# Altium footprint library LegacyDO.PcbLib: 67 footprints (part 3 of 5)
Each footprint in its own frame and in the unit in brackets; x right, y up, seen from the top. Pads: shape width x height; smd on the part's side, far side on the other; paste and mask are expansions set on the pad; w line width, h text height; cw(c..) or ccw(c..) is an arc to the next point about the centre after c.
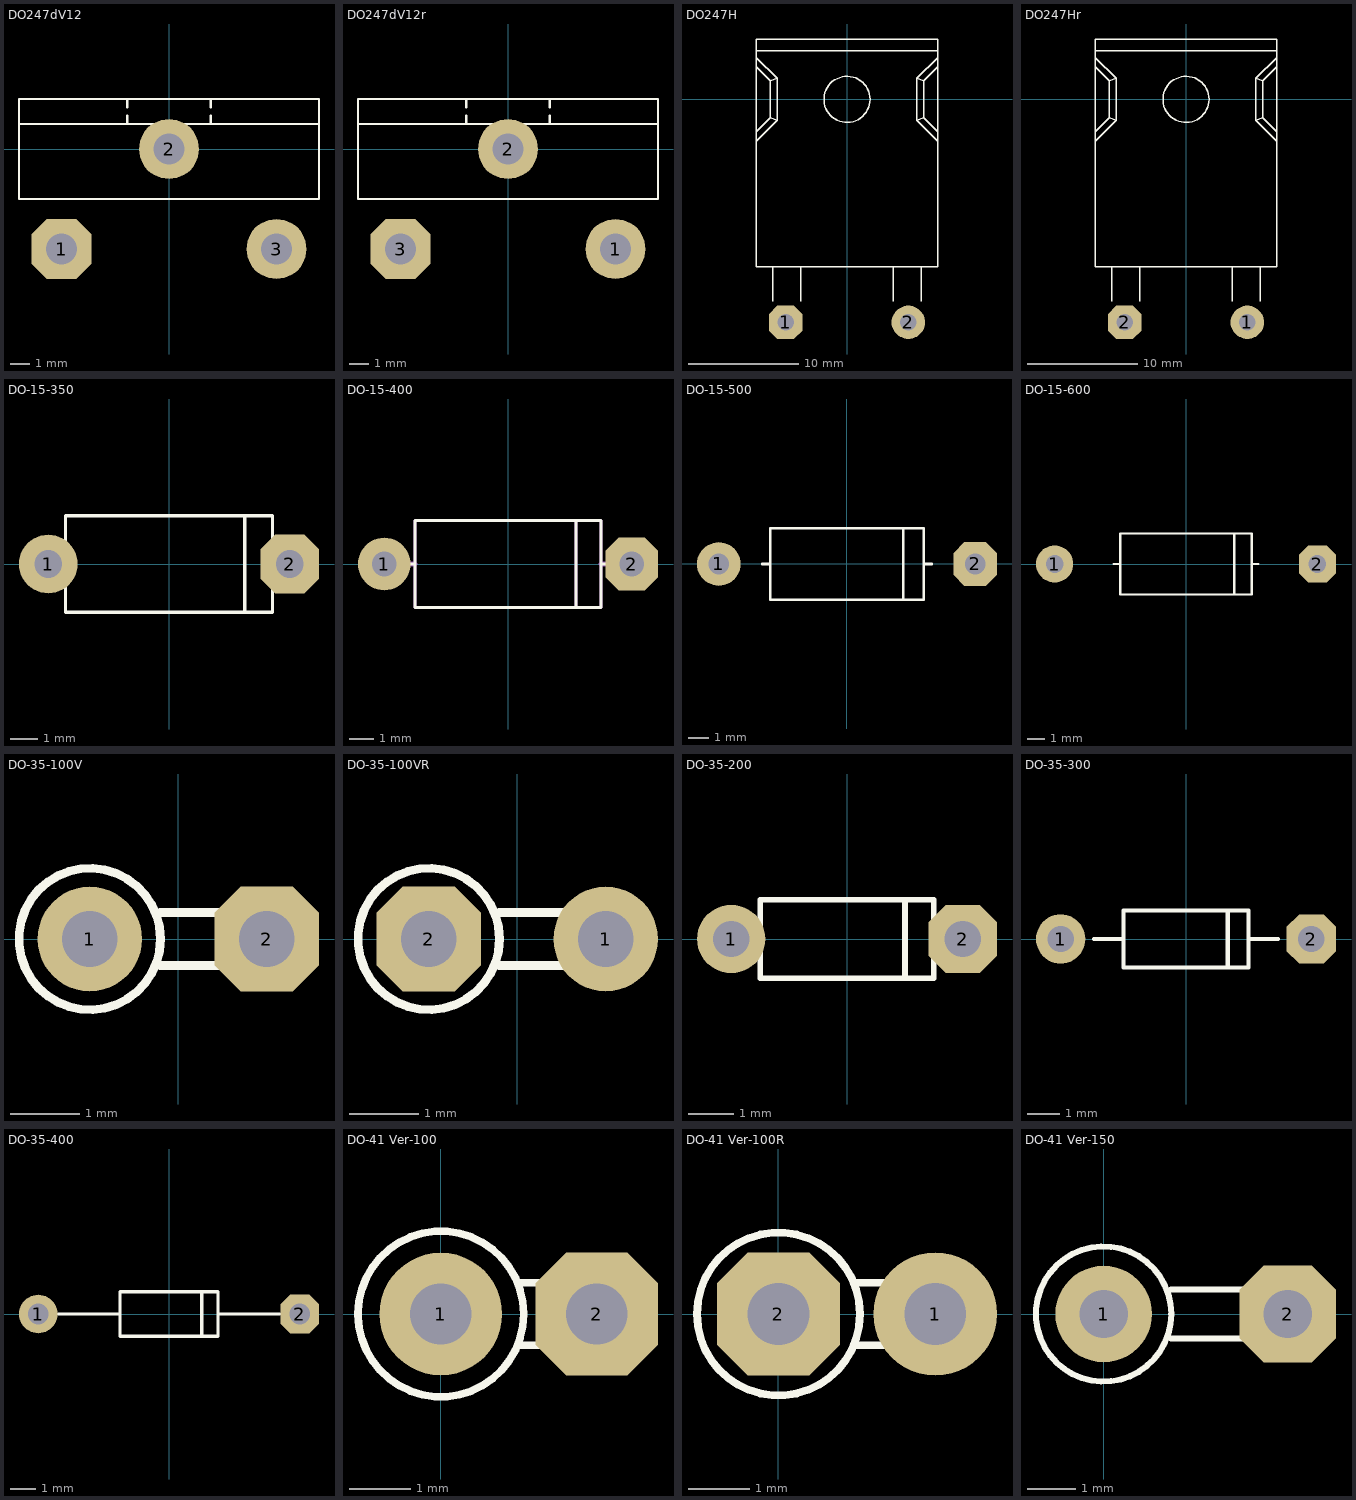
[diagram p2: the footprints below, top view; thin cyan lines are the x and y axes]

## DO247dV12 [mil]
pads (3):
  oct 120x120 hole 62: 1(-215,-200)
  round 120 hole 62: 2(0,0) 3(215,-200)
Top Overlay:
  lines w4.92: -300,50 300,50 ; -83.33,50 -83.33,66.67 ; -83.33,83.33 -83.33,100 ; 83.33,50 83.33,66.67 ; 83.33,83.33 83.33,100 ; -300,-100 -300,100 300,100 300,-100 -300,-100

## DO247dV12r [mil]
pads (3):
  round 120 hole 62: 1(215,-200) 2(0,0)
  oct 120x120 hole 62: 3(-215,-200)
Top Overlay:
  lines w4.92: -300,50 300,50 ; -83.33,50 -83.33,66.67 ; -83.33,83.33 -83.33,100 ; 83.33,50 83.33,66.67 ; 83.33,83.33 83.33,100 ; -300,-100 300,-100 300,100 -300,100 -300,-100

## DO247H [mil]
pads (2):
  oct 120x120 hole 60: 1(-220,-800)
  round 120 hole 60: 2(220,-800)
Top Overlay:
  circle w4.92: c0,0 r82.68
  lines w4.92: -325,-150 -250,-75 ; -325,-116.67 -275,-66.67 ; -325,116.67 -275,66.67 ; -325,150 -250,75 ; -325,175 325,175 ; -266.67,-725 -266.67,-600 ; -166.67,-725 -166.67,-600 ; 166.67,-725 166.67,-600 ; 266.67,-725 266.67,-600 ; 325,-150 250,-75 ; 325,-116.67 275,-66.67 ; 325,116.67 275,66.67 ; 325,150 250,75 ; -275,-66.67 -250,-75 ; -275,-66.67 -275,66.67 ; -275,66.67 -250,75 ; -250,-75 -250,75 ; 250,-75 275,-66.67 ; 250,-75 250,75 ; 250,75 275,66.67 ; 275,-66.67 275,66.67 ; -325,-600 -325,216.54 325,216.54 325,-600 -325,-600
3D body "TO-247-RA-800.STEP": height 192.91, standoff -275.59, extent -305.11,-811.8 305.12,216.54

## DO247Hr [mil]
pads (2):
  round 120 hole 60: 1(220,-800)
  oct 120x120 hole 60: 2(-220,-800)
Top Overlay:
  circle w4.92: c0,0 r82.68
  lines w4.92: -325,-150 -250,-75 ; -325,-116.67 -275,-66.67 ; -325,116.67 -275,66.67 ; -325,150 -250,75 ; -325,175 325,175 ; -266.67,-725 -266.67,-600 ; -166.67,-725 -166.67,-600 ; 166.67,-725 166.67,-600 ; 266.67,-725 266.67,-600 ; 325,-150 250,-75 ; 325,-116.67 275,-66.67 ; 325,116.67 275,66.67 ; 325,150 250,75 ; -275,-66.67 -250,-75 ; -275,-66.67 -275,66.67 ; -275,66.67 -250,75 ; -250,-75 -250,75 ; 250,-75 275,-66.67 ; 250,-75 250,75 ; 250,75 275,66.67 ; 275,-66.67 275,66.67 ; -325,-600 -325,216.54 325,216.54 325,-600 -325,-600
3D body "TO-247-RA-800.STEP": height 192.91, standoff -275.59, extent -305.11,-811.8 305.12,216.54

## DO-15-350 [mil]
pads (2):
  round 85 hole 40: 1(-175,0)
  oct 85x85 hole 40: 2(175,0)
Top Overlay:
  lines w4.92: -165,0 -150,0 ; 110,-70 110,70 ; 150,0 165,0 ; -150,-70 150,-70 150,70 -150,70 -150,-70
3D body "DO-15-350.STEP": height 140.94, standoff -86.61, extent -191.92,-70.17 191.93,70.18

## DO-15-400 [mil]
pads (2):
  round 85 hole 40: 1(-200,0)
  oct 85x85 hole 40: 2(200,0)
Top Overlay:
  lines w4.92: -165,0 -150,0 ; 110,-70 110,70 ; 150,0 165,0 ; -150,-70 150,-70 150,70 -150,70 -150,-70
Mechanical 13:
  circle w10: c200,0 r15
  circle w10: c-200,0 r15
  lines w4.92: 110,-70 110,70 ; -150,-70 -150,70 150,70 150,-70 -150,-70
  lines w7.87: -180,0 -150,0 ; 150,0 180,0
3D body "DO-15-400.STEP": height 188.33, standoff -39.37, extent -216.93,-70.17 216.93,70.19

## DO-15-500 [mil]
pads (2):
  round 85 hole 40: 1(-250,0)
  oct 85x85 hole 40: 2(250,0)
Top Overlay:
  lines w4.92: -165,0 -150,0 ; 110,-70 110,70 ; 150,0 165,0 ; -150,-70 -150,70 150,70 150,-70 -150,-70
3D body "DO-15-500.STEP": height 141.06, standoff -86.61, extent -266.92,-70.17 266.94,70.18

## DO-15-600 [mil]
pads (2):
  round 85 hole 40: 1(-300,0)
  oct 85x85 hole 40: 2(300,0)
Top Overlay:
  lines w4.92: -165,0 -150,0 ; 110,-70 110,70 ; 150,0 165,0 ; -150,-70 -150,70 150,70 150,-70 -150,-70
3D body "DO-15-600.STEP": height 140.94, standoff -86.61, extent -316.92,-70.17 316.94,70.18

## DO-35-100V [mm]
pads (2):
  round 1.5 hole 0.8: 1(-1.27,0)
  oct 1.5x1.5 hole 0.8: 2(1.27,0)
Top Overlay:
  circle w0.125: c-1.27,0 r1.016
  lines w0.125: -0.254,-0.381 1.27,-0.381 ccw(c1.27,0) 1.27,0.381 -0.254,0.381
3D body "DO-35-100  Ver.STEP": height 5.75, standoff -1.5, extent -2.27,-1 1.52,1

## DO-35-100VR [mm]
pads (2):
  round 1.5 hole 0.8: 1(1.27,0)
  oct 1.5x1.5 hole 0.8: 2(-1.27,0)
Top Overlay:
  circle w0.125: c-1.27,0 r1.016
  lines w0.125: -0.254,-0.381 1.27,-0.381 ccw(c1.27,0) 1.27,0.381 -0.254,0.381
3D body "DO-35-100  Ver R.STEP": height 5.75, standoff -1.5, extent -2.27,-1 1.52,1

## DO-35-200 [mm]
pads (2):
  round 1.5 hole 0.8: 1(-2.54,0)
  oct 1.5x1.5 hole 0.8: 2(2.54,0)
Top Overlay:
  lines w0.125: -2.159,0 -1.905,0 ; 1.27,-0.864 1.27,0.864 ; 1.905,0 2.159,0 ; -1.905,-0.862 1.905,-0.862 1.905,0.863 -1.905,0.863 -1.905,-0.862
3D body "DO-35-200.STEP": height 1.88, standoff -2.29, extent -2.794,-0.862 2.794,0.863

## DO-35-300 [mm]
pads (2):
  round 1.5 hole 0.8: 1(-3.81,0)
  oct 1.5x1.5 hole 0.8: 2(3.81,0)
Top Overlay:
  lines w0.125: -2.794,0 -1.905,0 ; 1.27,-0.864 1.27,0.864 ; 1.905,0 2.794,0 ; -1.905,-0.862 -1.905,0.863 1.905,0.863 1.905,-0.862 -1.905,-0.862
3D body "DO-35-300.STEP": height 2.13, standoff -2.54, extent -4.076,-0.862 4.075,0.863

## DO-35-400 [mm]
pads (2):
  round 1.5 hole 0.8: 1(-5.08,0)
  oct 1.5x1.5 hole 0.8: 2(5.08,0)
Top Overlay:
  lines w0.125: -4.318,0 -1.905,0 ; 1.27,-0.864 1.27,0.864 ; 1.905,0 4.318,0 ; -1.905,-0.862 -1.905,0.863 1.905,0.863 1.905,-0.862 -1.905,-0.862
3D body "DO-35-400.STEP": height 2.13, standoff -2.54, extent -5.346,-0.862 5.347,0.863

## DO-41 Ver-100 [mm]
pads (2):
  round 2 hole 1: 1(0,0)
  oct 2x2 hole 1: 2(2.54,0)
Top Overlay:
  circle w0.125: c0,0 r1.35
  lines w0.125: 1.27,-0.508 2.54,-0.508 2.54,0.508 1.27,0.508
3D body "DO-41 Ver-100.STEP": height 6.84, standoff -1.55, extent -1.334,-1.334 2.934,1.333

## DO-41 Ver-100R [mm]
pads (2):
  round 2 hole 1: 1(2.54,0)
  oct 2x2 hole 1: 2(0,0)
Top Overlay:
  circle w0.125: c0,0 r1.32
  lines w0.125: 1.27,-0.508 2.54,-0.508 2.54,0.508 1.27,0.508
3D body "DO-41 Ver-100R.STEP": height 6.84, standoff -1.55, extent -1.334,-1.334 2.934,1.333

## DO-41 Ver-150 [mm]
pads (2):
  round 2 hole 1: 1(0,0)
  oct 2x2 hole 1: 2(3.81,0)
Top Overlay:
  circle w0.125: c0,0 r1.4
  lines w0.125: 1.397,-0.508 3.81,-0.508 3.81,0.508 ; 1.397,0.508 3.81,0.508 ; 3.429,0.508 3.81,0.508
3D body "DO-41 Ver-150.STEP": height 6.84, standoff -1.55, extent -1.333,-1.333 4.204,1.334